# Altium footprint library PcbLib1.PcbLib: 24 footprints (part 1 of 2)
Each footprint in its own frame and in the unit in brackets; x right, y up, seen from the top. Pads: shape width x height; smd on the part's side, far side on the other; paste and mask are expansions set on the pad; w line width, h text height; cw(c..) or ccw(c..) is an arc to the next point about the centre after c.
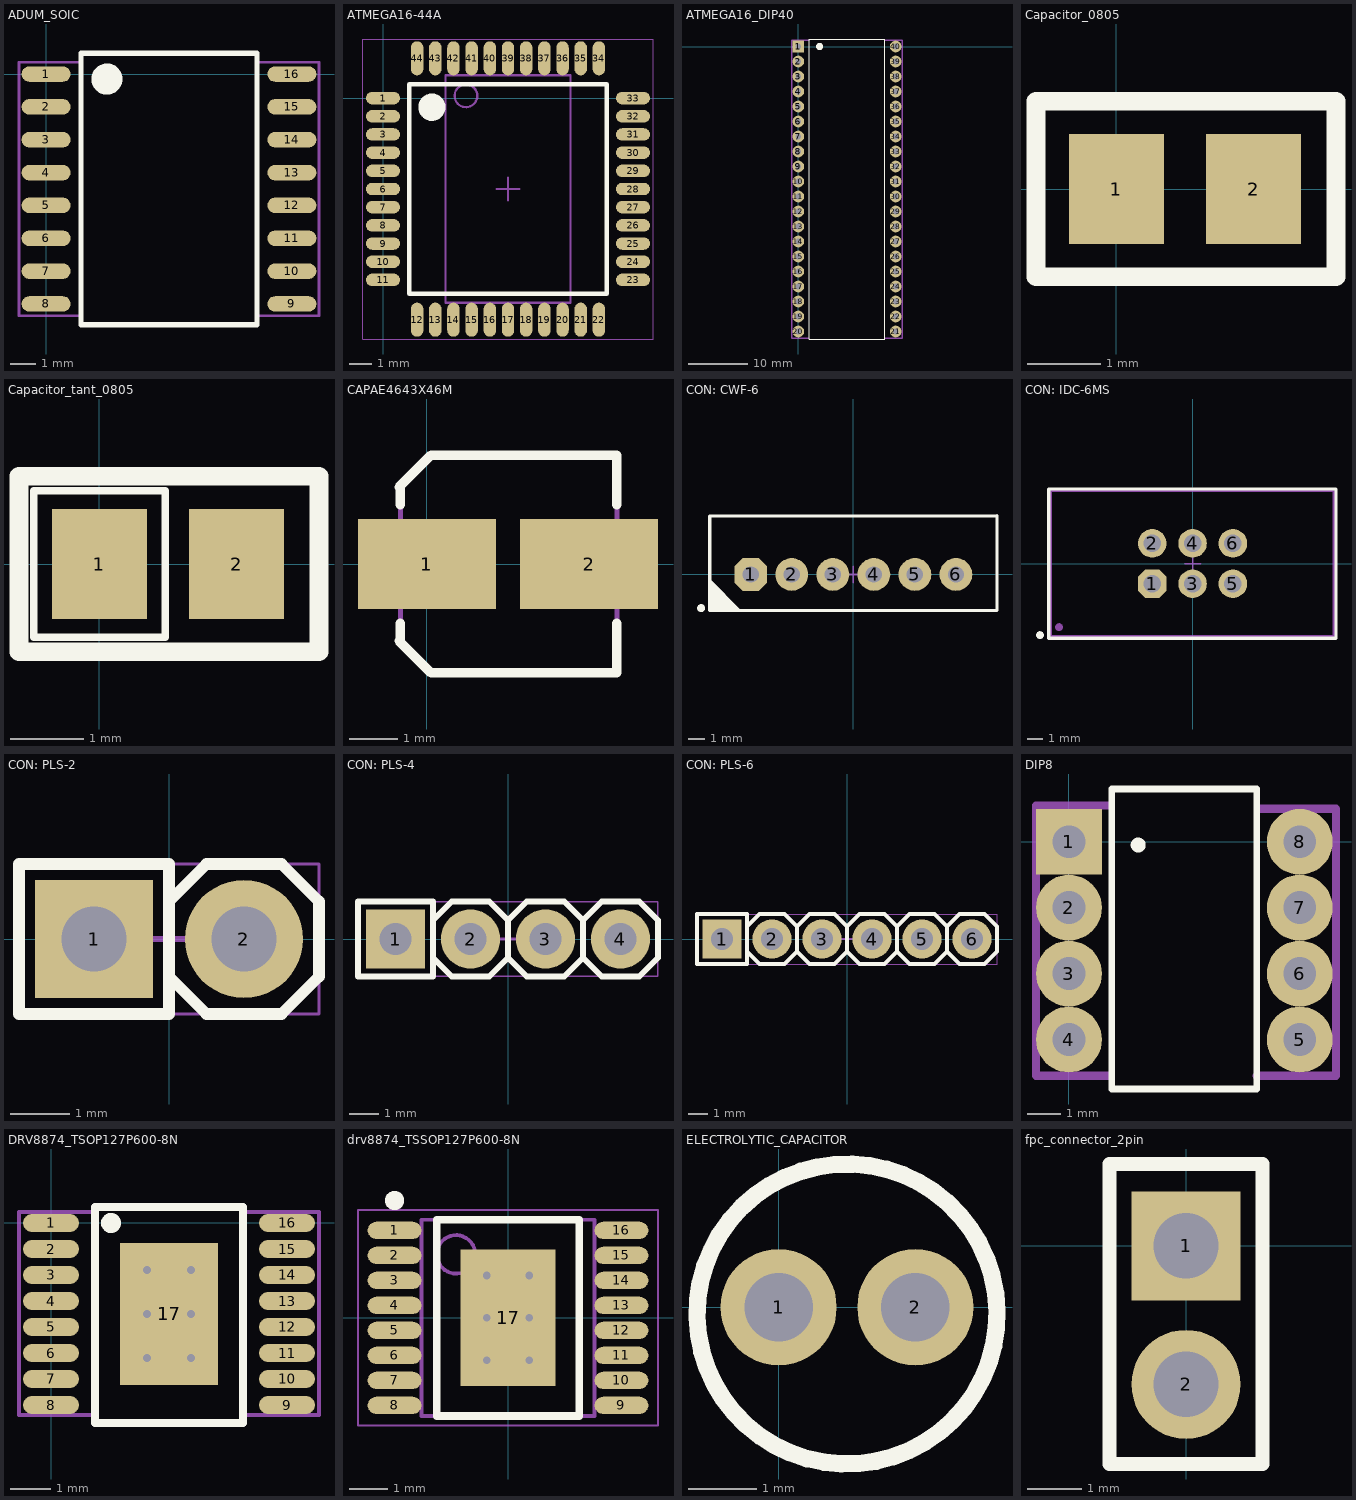
[diagram p0: the footprints below, top view; thin cyan lines are the x and y axes]

## ADUM_SOIC [mm]
height 2.65
pads (16):
  oval 1.9x0.6 smd: 1(0,0) 2(0,-1.27) 3(0,-2.54) 4(0,-3.81) 5(0,-5.08) 6(0,-6.35) 7(0,-7.62) 8(0,-8.89) 9(9.5,-8.89) 10(9.5,-7.62) 11(9.5,-6.35) 12(9.5,-5.08) 13(9.5,-3.81) 14(9.5,-2.54) 15(9.5,-1.27) 16(9.5,0)
Top Overlay:
  circle w0.6: c2.35,-0.195 r0.3
  lines w0.2: 1.35,-9.695 1.35,0.805 8.15,0.805 8.15,-9.695 1.35,-9.695
Mechanical 13:
  lines w0.1: 1.35,-9.345 -1.05,-9.345 -1.05,0.455 1.35,0.455 ; 8.15,-9.345 10.55,-9.345 10.55,0.455 8.15,0.455

## ATMEGA16-44A [mm]
height 1.2
pads (44):
  oval 1.5x0.55 smd: 1(0,0) 2(0,-0.8) 3(0,-1.6) 4(0,-2.4) 5(0,-3.2) 6(0,-4) 7(0,-4.8) 8(0,-5.6) 9(0,-6.4) 10(0,-7.2) 11(0,-8) 23(11,-8) 24(11,-7.2) 25(11,-6.4) 26(11,-5.6) 27(11,-4.8) 28(11,-4) 29(11,-3.2) 30(11,-2.4) 31(11,-1.6) 32(11,-0.8) 33(11,0)
  oval 0.55x1.5 smd: 12(1.5,-9.75) 13(2.3,-9.75) 14(3.1,-9.75) 15(3.9,-9.75) 16(4.7,-9.75) 17(5.5,-9.75) 18(6.3,-9.75) 19(7.1,-9.75) 20(7.9,-9.75) 21(8.7,-9.75) 22(9.5,-9.75) 34(9.5,1.75) 35(8.7,1.75) 36(7.9,1.75) 37(7.1,1.75) 38(6.3,1.75) 39(5.5,1.75) 40(4.7,1.75) 41(3.9,1.75) 42(3.1,1.75) 43(2.3,1.75) 44(1.5,1.75)
Top Overlay:
  circle w0.6: c2.15,-0.4 r0.3
  lines w0.2: 1.15,-8.6 9.85,-8.6 9.85,0.6 1.15,0.6 1.15,-8.6
Mechanical 13:
  circle w0.1: c3.65,0.1 r0.5
  lines w0.1: 2.75,-9 8.25,-9 8.25,1 2.75,1 2.75,-9
Mechanical 15:
  lines w0.05: -0.9,-10.6 11.9,-10.6 11.9,2.6 -0.9,2.6 -0.9,-10.6
  lines w0.1: 5,-4 6,-4 ; 5.5,-4.5 5.5,-3.5
3D body: height 1.2, standoff 0.15, extent 1.15,-8.6 9.85,0.6

## ATMEGA16_DIP40 [mm]
pads (40):
  rect 2x2 hole 1: 1(0,0)
  round 2 hole 1: 2(0,-2.54) 3(0,-5.08) 4(0,-7.62) 5(0,-10.16) 6(0,-12.7) 7(0,-15.24) 8(0,-17.78) 9(0,-20.32) 10(0,-22.86) 11(0,-25.4) 12(0,-27.94) 13(0,-30.48) 14(0,-33.02) 15(0,-35.56) 16(0,-38.1) 17(0,-40.64) 18(0,-43.18) 19(0,-45.72) 20(0,-48.26) 21(16.5,-48.26) 22(16.5,-45.72) 23(16.5,-43.18) 24(16.5,-40.64) 25(16.5,-38.1) 26(16.5,-35.56) 27(16.5,-33.02) 28(16.5,-30.48) 29(16.5,-27.94) 30(16.5,-25.4) 31(16.5,-22.86) 32(16.5,-20.32) 33(16.5,-17.78) 34(16.5,-15.24) 35(16.5,-12.7) 36(16.5,-10.16) 37(16.5,-7.62) 38(16.5,-5.08) 39(16.5,-2.54) 40(16.5,0)
Top Overlay:
  circle w0.61: c3.6,0 r0.3
  lines w0.2: 1.835,-49.53 14.665,-49.53 14.665,1.27 8.885,1.27 1.835,1.27 1.835,-49.53
Mechanical 1:
  lines w0.254: 1.8,-49.4 -1.1,-49.4 -1.1,1.1 1.8,1.1 ; 14.7,-49.4 17.6,-49.4 17.6,1.1 14.7,1.1

## Capacitor_0805 [mm]
pads (2):
  rect 1.3x1.5 smd: 1(0,0) 2(1.875,0)
Top Overlay:
  lines w0.254: -1.1,-1.2 -1.1,1.2 3,1.2 3,-1.2 2,-1.2 -1.1,-1.2

## Capacitor_tant_0805 [mm]
pads (2):
  rect 1.3x1.5 smd: 1(0,0) 2(1.875,0)
Top Overlay:
  lines w0.1: -0.9,-1 -0.9,1 0.9,1 0.9,-1 -0.9,-1
  lines w0.254: -1.1,-1.2 -1.1,1.2 3,1.2 3,-1.2 2,-1.2 -1.1,-1.2

## CAPAE4643X46M [mm] "Aluminum Electrolytic Capacitor, Body 4,30x4,30x4,60mm, IPC Low Density"
height 4.6
pads (2):
  rect 2.85x1.85 smd: 1(0,0) 2(3.35,0)
Top Overlay:
  lines w0.2: -0.575,-1.587 0.088,-2.25 3.925,-2.25 3.925,-1.225 ; -0.575,1.587 0.088,2.25 3.925,2.25 3.925,1.225 ; -0.55,-1.587 -0.55,-1.225 ; -0.55,1.225 -0.55,1.587
Mechanical 13:
  lines w0.1: 0.088,-2.25 3.925,-2.25 3.925,2.25 0.088,2.25 ; 0.113,-2.25 -0.55,-1.587 -0.55,1.587 0.113,2.25
Mechanical 15:
  lines w0.1: -0.5,0 0.5,0 ; 0,-0.5 0,0.5

## CON: CWF-6 [mm]
pads (7):
  oct 2x2 hole 1: 1(-6.25,0)
  round 2 hole 1: 2(-3.75,0) 3(-1.25,0) 4(1.25,0) 5(3.75,0) 6(6.25,0)
  round 0.5 on Top Overlay: ""(-9.275,-2.05)
Top Overlay:
  region: -6.825,-2.2 -8.75,-0.275 -8.75,-2.2
  lines w0.2: -8.75,-2.2 8.75,-2.2 8.75,3.575 -8.75,3.55 -8.75,-2.2
Mechanical 1:
  lines w0.1: -8.75,-2.2 8.75,-2.2 8.75,3.575 -8.75,3.55 -8.75,-2.2
Mechanical 15:
  lines w0.1: -0.5,0 0.5,0 ; 0,-0.5 0,0.5 ; -8.75,-2.2 8.75,-2.2 8.75,3.575 -8.75,3.55 -8.75,-2.2
3D body "User Library-CWF-6.STEP": height 7.05, standoff -3.45, extent -8.75,-2.2 8.75,3.55

## CON: IDC-6MS [mm] "IDC-6MS 6 pin PCB-mount connector"
height 10
pads (8):
  oct 1.8x1.8 hole 1.1: 1(-2.54,-1.27)
  round 1.8 hole 1.1: 2(-2.54,1.27) 3(0,-1.27) 4(0,1.27) 5(2.54,-1.27) 6(2.54,1.27)
  round 0.5 on Top Overlay: ""(-9.6,-4.5)
  round 0.5 on Mech1: ""(-8.4,-4)
Top Overlay:
  lines w0.2: -9.05,-4.7 -9.05,4.7 9.025,4.7 9.025,-4.7 -9.05,-4.7
Mechanical 1:
  lines w0.1: -8.89,-4.55 8.87,-4.55 8.87,4.55 -8.89,4.55 -8.89,-4.55
Mechanical 15:
  lines w0.1: -0.5,0 0.5,0 ; 0,-0.5 0,0.5 ; -8.975,-4.65 -8.975,4.65 8.975,4.65 8.975,-4.65 -8.975,-4.65
3D body "IDC-6MS.STEP": height 9, standoff -3, extent -8.89,-4.55 8.87,4.55

## CON: PLS-2 [mm]
height 10
pads (2):
  rect 2x2 hole 1.1: 1(-1.27,0)
  round 2 hole 1.1: 2(1.27,0)
Top Overlay:
  lines w0.2: 0,-0.635 0.635,-1.27 1.905,-1.27 2.54,-0.635 2.54,0.635 1.905,1.27 0.635,1.27 0,0.635 ; -2.54,-1.27 0,-1.27 0,1.27 -2.54,1.27 -2.54,-1.27
Mechanical 1:
  lines w0.1: 0,-0.635 0.635,-1.27 1.905,-1.27 2.54,-0.635 2.54,0.635 1.905,1.27 0.635,1.27 0,0.635 ; -2.54,-1.27 -2.54,1.27 0,1.27 0,-1.27 -2.54,-1.27
Mechanical 15:
  lines w0.05: -2.54,-1.27 -2.54,1.27 2.54,1.27 2.54,-1.27 -2.54,-1.27
  lines w0.1: -0.5,0 0.5,0 ; 0,-0.5 0,0.5
3D body "PLS-2.STEP": height 8.54, standoff -3, extent -2.573,-1.284 2.507,1.256

## CON: PLS-4 [mm] "PLS-40 4 pin header"
height 10
pads (4):
  rect 2x2 hole 1.1: 1(-3.81,0)
  round 2 hole 1.1: 2(-1.27,0) 3(1.27,0) 4(3.81,0)
Top Overlay:
  lines w0.2: -2.54,-0.635 -1.905,-1.27 -0.635,-1.27 0,-0.635 ; -2.54,0.635 -1.905,1.27 -0.635,1.27 0,0.635 ; 0,-0.635 0,0.635 ; 0,-0.635 0.635,-1.27 1.905,-1.27 2.54,-0.635 ; 0,0.635 0.635,1.27 1.905,1.27 2.54,0.635 ; 2.54,-0.635 2.54,0.635 ; 2.54,-0.635 3.175,-1.27 4.445,-1.27 5.08,-0.635 5.08,0.635 4.445,1.27 3.175,1.27 2.54,0.635 ; -5.08,-1.27 -5.08,1.27 -2.54,1.27 -2.54,-1.27 -5.08,-1.27
Mechanical 1:
  lines w0.1: -2.54,-0.635 -1.905,-1.27 -0.635,-1.27 0,-0.635 ; -2.54,0.635 -1.905,1.27 -0.635,1.27 0,0.635 ; 0,-0.635 0.635,-1.27 1.905,-1.27 2.54,-0.635 ; 0,-0.635 0,0.635 ; 0,0.635 0.635,1.27 1.905,1.27 2.54,0.635 ; 2.54,-0.635 3.175,-1.27 4.445,-1.27 5.08,-0.635 5.08,0.635 4.445,1.27 3.175,1.27 2.54,0.635 ; 2.54,-0.635 2.54,0.635 ; -5.08,-1.27 -2.54,-1.27 -2.54,1.27 -5.08,1.27 -5.08,-1.27
Mechanical 15:
  lines w0.05: -5.08,-1.27 5.08,-1.27 5.08,1.27 -5.08,1.27 -5.08,-1.27
  lines w0.1: -0.5,0 0.5,0 ; 0,-0.5 0,0.5
3D body "PLS-4.STEP": height 8.54, standoff -3, extent -5.08,-1.27 5.08,1.27

## CON: PLS-6 [mm]
height 10
pads (6):
  rect 2x2 hole 1.1: 1(-6.35,0)
  round 2 hole 1.1: 2(-3.81,0) 3(-1.27,0) 4(1.27,0) 5(3.81,0) 6(6.35,0)
Top Overlay:
  lines w0.2: -5.08,-0.635 -4.445,-1.27 -3.175,-1.27 -2.54,-0.635 ; -5.08,0.635 -4.445,1.27 -3.175,1.27 -2.54,0.635 ; -2.54,-0.635 -1.905,-1.27 -0.635,-1.27 0,-0.635 ; -2.54,-0.635 -2.54,0.635 ; -2.54,0.635 -1.905,1.27 -0.635,1.27 0,0.635 ; 0,-0.635 0.635,-1.27 1.905,-1.27 2.54,-0.635 ; 0,-0.635 0,0.635 ; 0,0.635 0.635,1.27 1.905,1.27 2.54,0.635 ; 2.54,-0.635 3.175,-1.27 4.445,-1.27 5.08,-0.635 ; 2.54,-0.635 2.54,0.635 ; 2.54,0.635 3.175,1.27 4.445,1.27 5.08,0.635 ; 5.08,-0.635 5.08,0.635 ; 5.08,-0.635 5.715,-1.27 6.985,-1.27 7.62,-0.635 7.62,0.635 6.985,1.27 5.715,1.27 5.08,0.635 ; -7.62,-1.27 -5.08,-1.27 -5.08,1.27 -7.62,1.27 -7.62,-1.27
Mechanical 1:
  lines w0.1: -5.08,-0.635 -4.445,-1.27 -3.175,-1.27 -2.54,-0.635 ; -5.08,0.635 -4.445,1.27 -3.175,1.27 -2.54,0.635 ; -2.54,-0.635 -2.54,0.635 ; -2.54,-0.635 -1.905,-1.27 -0.635,-1.27 0,-0.635 ; -2.54,0.635 -1.905,1.27 -0.635,1.27 0,0.635 ; 0,-0.635 0,0.635 ; 0,-0.635 0.635,-1.27 1.905,-1.27 2.54,-0.635 ; 0,0.635 0.635,1.27 1.905,1.27 2.54,0.635 ; 2.54,-0.635 2.54,0.635 ; 2.54,-0.635 3.175,-1.27 4.445,-1.27 5.08,-0.635 ; 2.54,0.635 3.175,1.27 4.445,1.27 5.08,0.635 ; 5.08,-0.635 5.715,-1.27 6.985,-1.27 7.62,-0.635 7.62,0.635 6.985,1.27 5.715,1.27 5.08,0.635 ; 5.08,-0.635 5.08,0.635 ; -7.62,-1.27 -7.62,1.27 -5.08,1.27 -5.08,-1.27 -7.62,-1.27
Mechanical 15:
  lines w0.05: -7.62,-1.27 -7.62,1.27 7.62,1.27 7.62,-1.27 -7.62,-1.27
  lines w0.1: -0.5,0 0.5,0 ; 0,-0.5 0,0.5
3D body "PLS-6.STEP": height 8.54, standoff -3, extent -7.62,-1.27 7.62,1.27

## DIP8 [mm]
pads (8):
  rect 2x2 hole 1: 1(0,0)
  round 2 hole 1: 2(0,-2) 3(0,-4) 4(0,-6) 5(7,-6) 6(7,-4) 7(7,-2) 8(7,0)
Top Overlay:
  circle w0.254: c2.1,-0.1 r0.1
  lines w0.2: 1.3,-7.5 5.7,-7.5 5.7,1.6 3.9,1.6 1.3,1.6 1.3,-7.5
Mechanical 1:
  lines w0.254: 1.2,-7.1 -1,-7.1 -1,1.1 1.2,1.1 ; 5.7,-7.1 8.1,-7.1 8.1,1 5.8,1

## DRV8874_TSOP127P600-8N [mm]
height 1.2
pads (17):
  oval 1.4x0.45 smd: 1(0,0) 2(0,-0.65) 3(0,-1.3) 4(0,-1.95) 5(0,-2.6) 6(0,-3.25) 7(0,-3.9) 8(0,-4.55) 9(5.9,-4.55) 10(5.9,-3.9) 11(5.9,-3.25) 12(5.9,-2.6) 13(5.9,-1.95) 14(5.9,-1.3) 15(5.9,-0.65) 16(5.9,0)
  rect 2.46x3.55 smd: 17(2.95,-2.275)
via 3.5,-3.375 diameter 0.5 hole 0.2
via 2.4,-3.375 diameter 0.5 hole 0.2
via 3.5,-2.275 diameter 0.5 hole 0.2
via 2.4,-2.275 diameter 0.5 hole 0.2
via 3.5,-1.175 diameter 0.5 hole 0.2
via 2.4,-1.175 diameter 0.5 hole 0.2
Top Overlay:
  circle w0.25: c1.5,0 r0.125
  lines w0.2: 1.1,-5 4.8,-5 4.8,0.4 1.1,0.4 1.1,-5
Mechanical 13:
  lines w0.1: 1.075,-4.8 -0.8,-4.8 -0.8,0.275 1.075,0.275 ; 4.825,-4.8 6.7,-4.8 6.7,0.275 4.825,0.275
Mechanical 15:
  lines w0.1: 2.45,-2.275 3.45,-2.275 ; 2.95,-2.775 2.95,-1.775

## drv8874_TSSOP127P600-8N [mm]
height 1.2
pads (17):
  oval 1.4x0.45 smd: 1(-2.95,2.275) 2(-2.95,1.625) 3(-2.95,0.975) 4(-2.95,0.325) 5(-2.95,-0.325) 6(-2.95,-0.975) 7(-2.95,-1.625) 8(-2.95,-2.275) 9(2.95,-2.275) 10(2.95,-1.625) 11(2.95,-0.975) 12(2.95,-0.325) 13(2.95,0.325) 14(2.95,0.975) 15(2.95,1.625) 16(2.95,2.275)
  rect 2.46x3.55 smd: 17(0,0)
via -0.55,1.1 diameter 0.5 hole 0.2
via 0.55,1.1 diameter 0.5 hole 0.2
via -0.55,0 diameter 0.5 hole 0.2
via 0.55,0 diameter 0.5 hole 0.2
via -0.55,-1.1 diameter 0.5 hole 0.2
via 0.55,-1.1 diameter 0.5 hole 0.2
Top Overlay:
  circle w0.25: c-2.95,3.05 r0.125
  lines w0.2: -1.85,-2.55 -1.85,2.55 1.85,2.55 1.85,-2.55 -1.85,-2.55
Mechanical 13:
  circle w0.1: c-1.35,1.65 r0.5
  lines w0.1: -2.25,-2.55 -2.25,2.55 2.25,2.55 2.25,-2.55 -2.25,-2.55
Mechanical 15:
  lines w0.05: -3.9,-2.8 -3.9,2.8 3.9,2.8 3.9,-2.8 -3.9,-2.8
  lines w0.1: -0.5,0 0.5,0 ; 0,-0.5 0,0.5
3D body: height 1.2, standoff 0.05, extent -2.25,-2.55 2.25,2.55

## ELECTROLYTIC_CAPACITOR [mm]
pads (2):
  round 1.7 hole 1: 1(0,0) 2(2,0)
Top Overlay:
  lines w0.254: 3.171,0.21 ccw(c1,-0.1) 3.173,0.196

## fpc_connector_2pin [mm]
pads (2):
  rect 2x2 hole 1.2: 1(0,0)
  round 2 hole 1.2: 2(0,-2.54)
Top Overlay:
  lines w0.254: -1.4,-4 0,-4 1.4,-4 1.4,1.5 -1.4,1.5 -1.4,-4